# EAGLE library part AD7923 (library ic-AD)
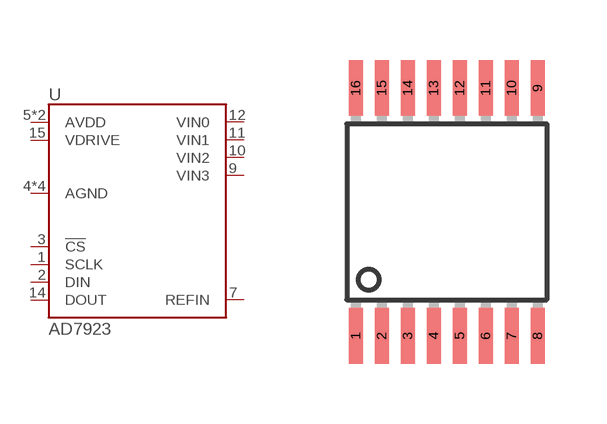
[diagram p3: symbol with the pads of TSSOP16; footprint TSSOP16]

Designator prefix U

## AD7923  [TSSOP16]
1  SCLK
2  DIN
3  !CS
4  AGND
5  AVDD
6  AVDD
7  REFIN
8  AGND
9  VIN3
10  VIN2
11  VIN1
12  VIN0
13  AGND
14  DOUT
15  VDRIVE
16  AGND

## Footprint TSSOP16 (pad centres in mm)
smd 0.35 x 1.4: 1 -2.275,-3.1; 2 -1.625,-3.1; 3 -0.975,-3.1; 4 -0.325,-3.1; 5 0.325,-3.1; 6 0.975,-3.1; 7 1.625,-3.1; 8 2.275,-3.1; 9 2.275,3.1; 10 1.625,3.1; 11 0.975,3.1; 12 0.325,3.1; 13 -0.325,3.1; 14 -0.975,3.1; 15 -1.625,3.1; 16 -2.275,3.1